# Altium schematic symbol library SchLibSchLib.SchLib: 1 symbol
Pins are listed as number, name and electrical type; pins without a type are passive.

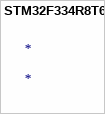
[diagram p0: symbol STM32F334R8T6]

## STM32F334R8T6
designator *